# Altium footprint library Connector_PinSocket_1.27mm.PcbLib: 246 footprints (part 8 of 16)
Each footprint in its own frame and in the unit in brackets; x right, y up, seen from the top. Pads: shape width x height; smd on the part's side, far side on the other; paste and mask are expansions set on the pad; w line width, h text height; cw(c..) or ccw(c..) is an arc to the next point about the centre after c.
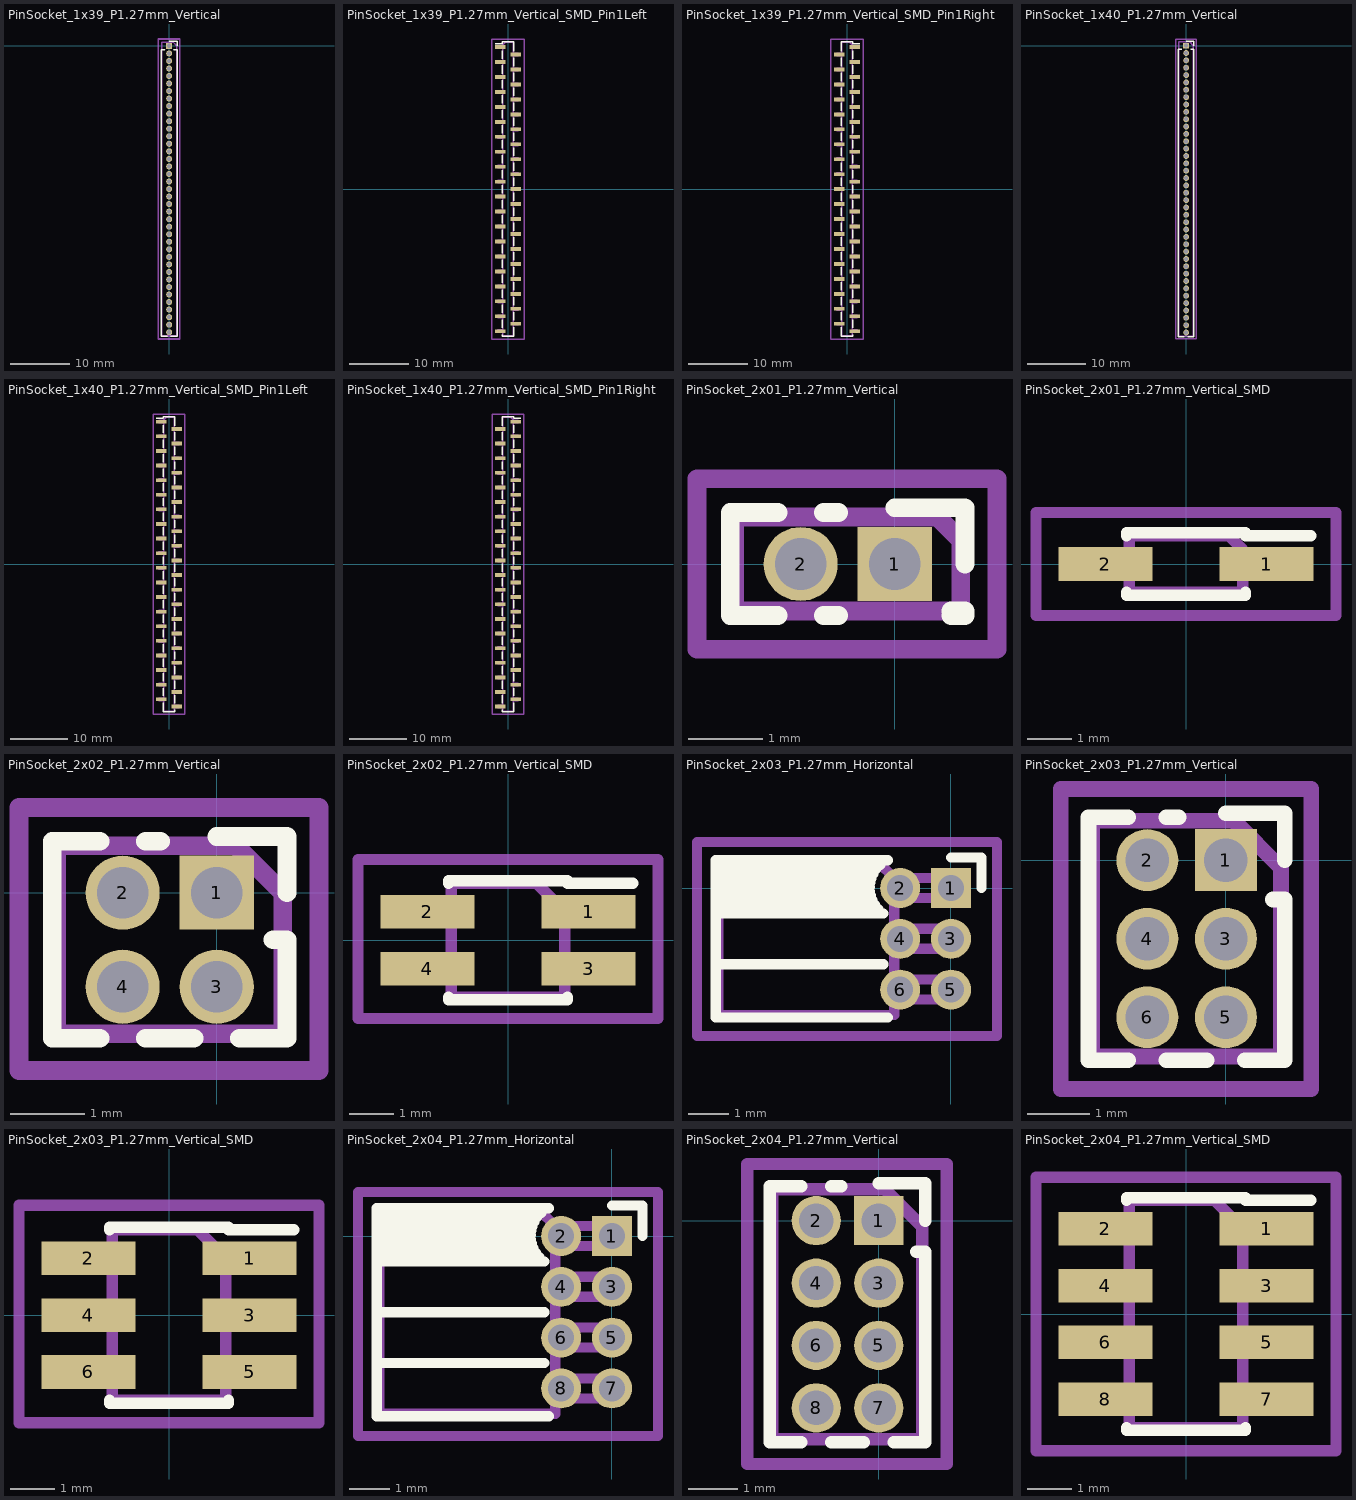
[diagram p7: the footprints below, top view; thin cyan lines are the x and y axes]

## PinSocket_1x39_P1.27mm_Vertical [mm]
pads (39):
  rect 1x1 hole 0.7: 1(0,0)
  round 1 hole 0.7: 2(0,-1.27) 3(0,-2.54) 4(0,-3.81) 5(0,-5.08) 6(0,-6.35) 7(0,-7.62) 8(0,-8.89) 9(0,-10.16) 10(0,-11.43) 11(0,-12.7) 12(0,-13.97) 13(0,-15.24) 14(0,-16.51) 15(0,-17.78) 16(0,-19.05) 17(0,-20.32) 18(0,-21.59) 19(0,-22.86) 20(0,-24.13) 21(0,-25.4) 22(0,-26.67) 23(0,-27.94) 24(0,-29.21) 25(0,-30.48) 26(0,-31.75) 27(0,-33.02) 28(0,-34.29) 29(0,-35.56) 30(0,-36.83) 31(0,-38.1) 32(0,-39.37) 33(0,-40.64) 34(0,-41.91) 35(0,-43.18) 36(0,-44.45) 37(0,-45.72) 38(0,-46.99) 39(0,-48.26)
F.SilkS:
  lines w0.254: -0.76,-0.635 -1.33,-0.635 -1.33,-48.955 -0.308,-48.955 ; 0,0.76 1.33,0.76 1.33,0 ; 0.308,-48.955 1.33,-48.955 1.33,-0.635 0.76,-0.635
Top Assembly:
  lines w0.254: -1.27,-48.895 1.27,-48.895 1.27,0 0.635,0.635 -1.27,0.635 -1.27,-48.895
  text "'.Designator'" at 0.84,-28.177 h1
Top Courtyard:
  lines w0.254: -1.8,-49.4 1.75,-49.4 1.75,1.15 -1.8,1.15 -1.8,-49.4
Top Designator:
  text ".Designator" at -7.643,-24.633 h1.52

## PinSocket_1x39_P1.27mm_Vertical_SMD_Pin1Left [mm]
pads (39):
  rect 1.8x0.65 smd: 1(-1.35,24.13) 2(1.35,22.86) 3(-1.35,21.59) 4(1.35,20.32) 5(-1.35,19.05) 6(1.35,17.78) 7(-1.35,16.51) 8(1.35,15.24) 9(-1.35,13.97) 10(1.35,12.7) 11(-1.35,11.43) 12(1.35,10.16) 13(-1.35,8.89) 14(1.35,7.62) 15(-1.35,6.35) 16(1.35,5.08) 17(-1.35,3.81) 18(1.35,2.54) 19(-1.35,1.27) 20(1.35,0) 21(-1.35,-1.27) 22(1.35,-2.54) 23(-1.35,-3.81) 24(1.35,-5.08) 25(-1.35,-6.35) 26(1.35,-7.62) 27(-1.35,-8.89) 28(1.35,-10.16) 29(-1.35,-11.43) 30(1.35,-12.7) 31(-1.35,-13.97) 32(1.35,-15.24) 33(-1.35,-16.51) 34(1.35,-17.78) 35(-1.35,-19.05) 36(1.35,-20.32) 37(-1.35,-21.59) 38(1.35,-22.86) 39(-1.35,-24.13)
F.SilkS:
  lines w0.254: -2.19,24.715 -0.96,24.715 -0.96,25 0.96,25 0.96,23.445 ; -0.96,-24.715 -0.96,-25 0.96,-25 0.96,-23.445 ; -0.96,-23.545 -0.96,-22.175 ; -0.96,-21.005 -0.96,-19.635 ; -0.96,-18.465 -0.96,-17.095 ; -0.96,-15.925 -0.96,-14.555 ; -0.96,-13.385 -0.96,-12.015 ; -0.96,-10.845 -0.96,-9.475 ; -0.96,-8.305 -0.96,-6.935 ; -0.96,-5.765 -0.96,-4.395 ; -0.96,-3.225 -0.96,-1.855 ; -0.96,-0.685 -0.96,0.685 ; -0.96,1.855 -0.96,3.225 ; -0.96,4.395 -0.96,5.765 ; -0.96,6.935 -0.96,8.305 ; -0.96,9.475 -0.96,10.845 ; -0.96,12.015 -0.96,13.385 ; -0.96,14.555 -0.96,15.925 ; -0.96,17.095 -0.96,18.465 ; -0.96,19.635 -0.96,21.005 ; -0.96,22.175 -0.96,23.545 ; 0.96,-22.275 0.96,-20.905 ; 0.96,-19.735 0.96,-18.365 ; 0.96,-17.195 0.96,-15.825 ; 0.96,-14.655 0.96,-13.285 ; 0.96,-12.115 0.96,-10.745 ; 0.96,-9.575 0.96,-8.205 ; 0.96,-7.035 0.96,-5.665 ; 0.96,-4.495 0.96,-3.125 ; 0.96,-1.955 0.96,-0.585 ; 0.96,0.585 0.96,1.955 ; 0.96,3.125 0.96,4.495 ; 0.96,5.665 0.96,7.035 ; 0.96,8.205 0.96,9.575 ; 0.96,10.745 0.96,12.115 ; 0.96,13.285 0.96,14.655 ; 0.96,15.825 0.96,17.195 ; 0.96,18.365 0.96,19.735 ; 0.96,20.905 0.96,22.275
Top Assembly:
  lines w0.254: -0.9,-24.34 -1.75,-24.34 -1.75,-23.92 -0.9,-23.92 ; -0.9,-21.8 -1.75,-21.8 -1.75,-21.38 -0.9,-21.38 ; -0.9,-19.26 -1.75,-19.26 -1.75,-18.84 -0.9,-18.84 ; -0.9,-16.72 -1.75,-16.72 -1.75,-16.3 -0.9,-16.3 ; -0.9,-14.18 -1.75,-14.18 -1.75,-13.76 -0.9,-13.76 ; -0.9,-11.64 -1.75,-11.64 -1.75,-11.22 -0.9,-11.22 ; -0.9,-9.1 -1.75,-9.1 -1.75,-8.68 -0.9,-8.68 ; -0.9,-6.56 -1.75,-6.56 -1.75,-6.14 -0.9,-6.14 ; -0.9,-4.02 -1.75,-4.02 -1.75,-3.6 -0.9,-3.6 ; -0.9,-1.48 -1.75,-1.48 -1.75,-1.06 -0.9,-1.06 ; -0.9,1.06 -1.75,1.06 -1.75,1.48 -0.9,1.48 ; -0.9,3.6 -1.75,3.6 -1.75,4.02 -0.9,4.02 ; -0.9,6.14 -1.75,6.14 -1.75,6.56 -0.9,6.56 ; -0.9,8.68 -1.75,8.68 -1.75,9.1 -0.9,9.1 ; -0.9,11.22 -1.75,11.22 -1.75,11.64 -0.9,11.64 ; -0.9,13.76 -1.75,13.76 -1.75,14.18 -0.9,14.18 ; -0.9,16.3 -1.75,16.3 -1.75,16.72 -0.9,16.72 ; -0.9,18.84 -1.75,18.84 -1.75,19.26 -0.9,19.26 ; -0.9,21.38 -1.75,21.38 -1.75,21.8 -0.9,21.8 ; -0.9,23.92 -1.75,23.92 -1.75,24.34 -0.9,24.34 ; 0.9,-23.07 1.75,-23.07 1.75,-22.65 0.9,-22.65 ; 0.9,-20.53 1.75,-20.53 1.75,-20.11 0.9,-20.11 ; 0.9,-17.99 1.75,-17.99 1.75,-17.57 0.9,-17.57 ; 0.9,-15.45 1.75,-15.45 1.75,-15.03 0.9,-15.03 ; 0.9,-12.91 1.75,-12.91 1.75,-12.49 0.9,-12.49 ; 0.9,-10.37 1.75,-10.37 1.75,-9.95 0.9,-9.95 ; 0.9,-7.83 1.75,-7.83 1.75,-7.41 0.9,-7.41 ; 0.9,-5.29 1.75,-5.29 1.75,-4.87 0.9,-4.87 ; 0.9,-2.75 1.75,-2.75 1.75,-2.33 0.9,-2.33 ; 0.9,-0.21 1.75,-0.21 1.75,0.21 0.9,0.21 ; 0.9,2.33 1.75,2.33 1.75,2.75 0.9,2.75 ; 0.9,4.87 1.75,4.87 1.75,5.29 0.9,5.29 ; 0.9,7.41 1.75,7.41 1.75,7.83 0.9,7.83 ; 0.9,9.95 1.75,9.95 1.75,10.37 0.9,10.37 ; 0.9,12.49 1.75,12.49 1.75,12.91 0.9,12.91 ; 0.9,15.03 1.75,15.03 1.75,15.45 0.9,15.45 ; 0.9,17.57 1.75,17.57 1.75,17.99 0.9,17.99 ; 0.9,20.11 1.75,20.11 1.75,20.53 0.9,20.53 ; 0.9,22.65 1.75,22.65 1.75,23.07 0.9,23.07 ; -0.9,-24.94 0.9,-24.94 0.9,24.94 -0.45,24.94 -0.9,24.49 -0.9,-24.94
  text "'.Designator'" at 0.84,-4.047 h1
Top Courtyard:
  lines w0.254: -2.75,-25.45 2.75,-25.45 2.75,25.5 -2.75,25.5 -2.75,-25.45
Top Designator:
  text ".Designator" at -7.618,-0.483 h1.52

## PinSocket_1x39_P1.27mm_Vertical_SMD_Pin1Right [mm]
pads (39):
  rect 1.8x0.65 smd: 1(1.35,24.13) 2(-1.35,22.86) 3(1.35,21.59) 4(-1.35,20.32) 5(1.35,19.05) 6(-1.35,17.78) 7(1.35,16.51) 8(-1.35,15.24) 9(1.35,13.97) 10(-1.35,12.7) 11(1.35,11.43) 12(-1.35,10.16) 13(1.35,8.89) 14(-1.35,7.62) 15(1.35,6.35) 16(-1.35,5.08) 17(1.35,3.81) 18(-1.35,2.54) 19(1.35,1.27) 20(-1.35,0) 21(1.35,-1.27) 22(-1.35,-2.54) 23(1.35,-3.81) 24(-1.35,-5.08) 25(1.35,-6.35) 26(-1.35,-7.62) 27(1.35,-8.89) 28(-1.35,-10.16) 29(1.35,-11.43) 30(-1.35,-12.7) 31(1.35,-13.97) 32(-1.35,-15.24) 33(1.35,-16.51) 34(-1.35,-17.78) 35(1.35,-19.05) 36(-1.35,-20.32) 37(1.35,-21.59) 38(-1.35,-22.86) 39(1.35,-24.13)
F.SilkS:
  lines w0.254: -0.96,-23.445 -0.96,-25 0.96,-25 0.96,-24.715 ; -0.96,-22.275 -0.96,-20.905 ; -0.96,-19.735 -0.96,-18.365 ; -0.96,-17.195 -0.96,-15.825 ; -0.96,-14.655 -0.96,-13.285 ; -0.96,-12.115 -0.96,-10.745 ; -0.96,-9.575 -0.96,-8.205 ; -0.96,-7.035 -0.96,-5.665 ; -0.96,-4.495 -0.96,-3.125 ; -0.96,-1.955 -0.96,-0.585 ; -0.96,0.585 -0.96,1.955 ; -0.96,3.125 -0.96,4.495 ; -0.96,5.665 -0.96,7.035 ; -0.96,8.205 -0.96,9.575 ; -0.96,10.745 -0.96,12.115 ; -0.96,13.285 -0.96,14.655 ; -0.96,15.825 -0.96,17.195 ; -0.96,18.365 -0.96,19.735 ; -0.96,20.905 -0.96,22.275 ; -0.96,23.445 -0.96,25 0.96,25 0.96,24.715 2.19,24.715 ; 0.96,-23.545 0.96,-22.175 ; 0.96,-21.005 0.96,-19.635 ; 0.96,-18.465 0.96,-17.095 ; 0.96,-15.925 0.96,-14.555 ; 0.96,-13.385 0.96,-12.015 ; 0.96,-10.845 0.96,-9.475 ; 0.96,-8.305 0.96,-6.935 ; 0.96,-5.765 0.96,-4.395 ; 0.96,-3.225 0.96,-1.855 ; 0.96,-0.685 0.96,0.685 ; 0.96,1.855 0.96,3.225 ; 0.96,4.395 0.96,5.765 ; 0.96,6.935 0.96,8.305 ; 0.96,9.475 0.96,10.845 ; 0.96,12.015 0.96,13.385 ; 0.96,14.555 0.96,15.925 ; 0.96,17.095 0.96,18.465 ; 0.96,19.635 0.96,21.005 ; 0.96,22.175 0.96,23.545
Top Assembly:
  lines w0.254: -0.9,-23.07 -1.75,-23.07 -1.75,-22.65 -0.9,-22.65 ; -0.9,-20.53 -1.75,-20.53 -1.75,-20.11 -0.9,-20.11 ; -0.9,-17.99 -1.75,-17.99 -1.75,-17.57 -0.9,-17.57 ; -0.9,-15.45 -1.75,-15.45 -1.75,-15.03 -0.9,-15.03 ; -0.9,-12.91 -1.75,-12.91 -1.75,-12.49 -0.9,-12.49 ; -0.9,-10.37 -1.75,-10.37 -1.75,-9.95 -0.9,-9.95 ; -0.9,-7.83 -1.75,-7.83 -1.75,-7.41 -0.9,-7.41 ; -0.9,-5.29 -1.75,-5.29 -1.75,-4.87 -0.9,-4.87 ; -0.9,-2.75 -1.75,-2.75 -1.75,-2.33 -0.9,-2.33 ; -0.9,-0.21 -1.75,-0.21 -1.75,0.21 -0.9,0.21 ; -0.9,2.33 -1.75,2.33 -1.75,2.75 -0.9,2.75 ; -0.9,4.87 -1.75,4.87 -1.75,5.29 -0.9,5.29 ; -0.9,7.41 -1.75,7.41 -1.75,7.83 -0.9,7.83 ; -0.9,9.95 -1.75,9.95 -1.75,10.37 -0.9,10.37 ; -0.9,12.49 -1.75,12.49 -1.75,12.91 -0.9,12.91 ; -0.9,15.03 -1.75,15.03 -1.75,15.45 -0.9,15.45 ; -0.9,17.57 -1.75,17.57 -1.75,17.99 -0.9,17.99 ; -0.9,20.11 -1.75,20.11 -1.75,20.53 -0.9,20.53 ; -0.9,22.65 -1.75,22.65 -1.75,23.07 -0.9,23.07 ; 0.9,-24.34 1.75,-24.34 1.75,-23.92 0.9,-23.92 ; 0.9,-21.8 1.75,-21.8 1.75,-21.38 0.9,-21.38 ; 0.9,-19.26 1.75,-19.26 1.75,-18.84 0.9,-18.84 ; 0.9,-16.72 1.75,-16.72 1.75,-16.3 0.9,-16.3 ; 0.9,-14.18 1.75,-14.18 1.75,-13.76 0.9,-13.76 ; 0.9,-11.64 1.75,-11.64 1.75,-11.22 0.9,-11.22 ; 0.9,-9.1 1.75,-9.1 1.75,-8.68 0.9,-8.68 ; 0.9,-6.56 1.75,-6.56 1.75,-6.14 0.9,-6.14 ; 0.9,-4.02 1.75,-4.02 1.75,-3.6 0.9,-3.6 ; 0.9,-1.48 1.75,-1.48 1.75,-1.06 0.9,-1.06 ; 0.9,1.06 1.75,1.06 1.75,1.48 0.9,1.48 ; 0.9,3.6 1.75,3.6 1.75,4.02 0.9,4.02 ; 0.9,6.14 1.75,6.14 1.75,6.56 0.9,6.56 ; 0.9,8.68 1.75,8.68 1.75,9.1 0.9,9.1 ; 0.9,11.22 1.75,11.22 1.75,11.64 0.9,11.64 ; 0.9,13.76 1.75,13.76 1.75,14.18 0.9,14.18 ; 0.9,16.3 1.75,16.3 1.75,16.72 0.9,16.72 ; 0.9,18.84 1.75,18.84 1.75,19.26 0.9,19.26 ; 0.9,21.38 1.75,21.38 1.75,21.8 0.9,21.8 ; 0.9,23.92 1.75,23.92 1.75,24.34 0.9,24.34 ; -0.9,-24.94 0.9,-24.94 0.9,24.49 0.45,24.94 -0.9,24.94 -0.9,-24.94
  text "'.Designator'" at 0.84,-4.047 h1
Top Courtyard:
  lines w0.254: -2.75,-25.45 2.75,-25.45 2.75,25.5 -2.75,25.5 -2.75,-25.45
Top Designator:
  text ".Designator" at -7.618,-0.483 h1.52

## PinSocket_1x40_P1.27mm_Vertical [mm]
pads (40):
  rect 1x1 hole 0.7: 1(0,0)
  round 1 hole 0.7: 2(0,-1.27) 3(0,-2.54) 4(0,-3.81) 5(0,-5.08) 6(0,-6.35) 7(0,-7.62) 8(0,-8.89) 9(0,-10.16) 10(0,-11.43) 11(0,-12.7) 12(0,-13.97) 13(0,-15.24) 14(0,-16.51) 15(0,-17.78) 16(0,-19.05) 17(0,-20.32) 18(0,-21.59) 19(0,-22.86) 20(0,-24.13) 21(0,-25.4) 22(0,-26.67) 23(0,-27.94) 24(0,-29.21) 25(0,-30.48) 26(0,-31.75) 27(0,-33.02) 28(0,-34.29) 29(0,-35.56) 30(0,-36.83) 31(0,-38.1) 32(0,-39.37) 33(0,-40.64) 34(0,-41.91) 35(0,-43.18) 36(0,-44.45) 37(0,-45.72) 38(0,-46.99) 39(0,-48.26) 40(0,-49.53)
F.SilkS:
  lines w0.254: -0.76,-0.635 -1.33,-0.635 -1.33,-50.225 -0.308,-50.225 ; 0,0.76 1.33,0.76 1.33,0 ; 0.308,-50.225 1.33,-50.225 1.33,-0.635 0.76,-0.635
Top Assembly:
  lines w0.254: -1.27,-50.165 1.27,-50.165 1.27,0 0.635,0.635 -1.27,0.635 -1.27,-50.165
  text "'.Designator'" at 0.84,-28.812 h1
Top Courtyard:
  lines w0.254: -1.8,-50.65 1.75,-50.65 1.75,1.15 -1.8,1.15 -1.8,-50.65
Top Designator:
  text ".Designator" at -7.643,-25.258 h1.52

## PinSocket_1x40_P1.27mm_Vertical_SMD_Pin1Left [mm]
pads (40):
  rect 1.8x0.65 smd: 1(-1.35,24.765) 2(1.35,23.495) 3(-1.35,22.225) 4(1.35,20.955) 5(-1.35,19.685) 6(1.35,18.415) 7(-1.35,17.145) 8(1.35,15.875) 9(-1.35,14.605) 10(1.35,13.335) 11(-1.35,12.065) 12(1.35,10.795) 13(-1.35,9.525) 14(1.35,8.255) 15(-1.35,6.985) 16(1.35,5.715) 17(-1.35,4.445) 18(1.35,3.175) 19(-1.35,1.905) 20(1.35,0.635) 21(-1.35,-0.635) 22(1.35,-1.905) 23(-1.35,-3.175) 24(1.35,-4.445) 25(-1.35,-5.715) 26(1.35,-6.985) 27(-1.35,-8.255) 28(1.35,-9.525) 29(-1.35,-10.795) 30(1.35,-12.065) 31(-1.35,-13.335) 32(1.35,-14.605) 33(-1.35,-15.875) 34(1.35,-17.145) 35(-1.35,-18.415) 36(1.35,-19.685) 37(-1.35,-20.955) 38(1.35,-22.225) 39(-1.35,-23.495) 40(1.35,-24.765)
F.SilkS:
  lines w0.254: -2.19,25.35 -0.96,25.35 -0.96,25.635 0.96,25.635 0.96,24.08 ; -0.96,-24.08 -0.96,-25.635 0.96,-25.635 0.96,-25.35 ; -0.96,-22.91 -0.96,-21.54 ; -0.96,-20.37 -0.96,-19 ; -0.96,-17.83 -0.96,-16.46 ; -0.96,-15.29 -0.96,-13.92 ; -0.96,-12.75 -0.96,-11.38 ; -0.96,-10.21 -0.96,-8.84 ; -0.96,-7.67 -0.96,-6.3 ; -0.96,-5.13 -0.96,-3.76 ; -0.96,-2.59 -0.96,-1.22 ; -0.96,-0.05 -0.96,1.32 ; -0.96,2.49 -0.96,3.86 ; -0.96,5.03 -0.96,6.4 ; -0.96,7.57 -0.96,8.94 ; -0.96,10.11 -0.96,11.48 ; -0.96,12.65 -0.96,14.02 ; -0.96,15.19 -0.96,16.56 ; -0.96,17.73 -0.96,19.1 ; -0.96,20.27 -0.96,21.64 ; -0.96,22.81 -0.96,24.18 ; 0.96,-24.18 0.96,-22.81 ; 0.96,-21.64 0.96,-20.27 ; 0.96,-19.1 0.96,-17.73 ; 0.96,-16.56 0.96,-15.19 ; 0.96,-14.02 0.96,-12.65 ; 0.96,-11.48 0.96,-10.11 ; 0.96,-8.94 0.96,-7.57 ; 0.96,-6.4 0.96,-5.03 ; 0.96,-3.86 0.96,-2.49 ; 0.96,-1.32 0.96,0.05 ; 0.96,1.22 0.96,2.59 ; 0.96,3.76 0.96,5.13 ; 0.96,6.3 0.96,7.67 ; 0.96,8.84 0.96,10.21 ; 0.96,11.38 0.96,12.75 ; 0.96,13.92 0.96,15.29 ; 0.96,16.46 0.96,17.83 ; 0.96,19 0.96,20.37 ; 0.96,21.54 0.96,22.91
Top Assembly:
  lines w0.254: -0.9,-23.705 -1.75,-23.705 -1.75,-23.285 -0.9,-23.285 ; -0.9,-21.165 -1.75,-21.165 -1.75,-20.745 -0.9,-20.745 ; -0.9,-18.625 -1.75,-18.625 -1.75,-18.205 -0.9,-18.205 ; -0.9,-16.085 -1.75,-16.085 -1.75,-15.665 -0.9,-15.665 ; -0.9,-13.545 -1.75,-13.545 -1.75,-13.125 -0.9,-13.125 ; -0.9,-11.005 -1.75,-11.005 -1.75,-10.585 -0.9,-10.585 ; -0.9,-8.465 -1.75,-8.465 -1.75,-8.045 -0.9,-8.045 ; -0.9,-5.925 -1.75,-5.925 -1.75,-5.505 -0.9,-5.505 ; -0.9,-3.385 -1.75,-3.385 -1.75,-2.965 -0.9,-2.965 ; -0.9,-0.845 -1.75,-0.845 -1.75,-0.425 -0.9,-0.425 ; -0.9,1.695 -1.75,1.695 -1.75,2.115 -0.9,2.115 ; -0.9,4.235 -1.75,4.235 -1.75,4.655 -0.9,4.655 ; -0.9,6.775 -1.75,6.775 -1.75,7.195 -0.9,7.195 ; -0.9,9.315 -1.75,9.315 -1.75,9.735 -0.9,9.735 ; -0.9,11.855 -1.75,11.855 -1.75,12.275 -0.9,12.275 ; -0.9,14.395 -1.75,14.395 -1.75,14.815 -0.9,14.815 ; -0.9,16.935 -1.75,16.935 -1.75,17.355 -0.9,17.355 ; -0.9,19.475 -1.75,19.475 -1.75,19.895 -0.9,19.895 ; -0.9,22.015 -1.75,22.015 -1.75,22.435 -0.9,22.435 ; -0.9,24.555 -1.75,24.555 -1.75,24.975 -0.9,24.975 ; 0.9,-24.975 1.75,-24.975 1.75,-24.555 0.9,-24.555 ; 0.9,-22.435 1.75,-22.435 1.75,-22.015 0.9,-22.015 ; 0.9,-19.895 1.75,-19.895 1.75,-19.475 0.9,-19.475 ; 0.9,-17.355 1.75,-17.355 1.75,-16.935 0.9,-16.935 ; 0.9,-14.815 1.75,-14.815 1.75,-14.395 0.9,-14.395 ; 0.9,-12.275 1.75,-12.275 1.75,-11.855 0.9,-11.855 ; 0.9,-9.735 1.75,-9.735 1.75,-9.315 0.9,-9.315 ; 0.9,-7.195 1.75,-7.195 1.75,-6.775 0.9,-6.775 ; 0.9,-4.655 1.75,-4.655 1.75,-4.235 0.9,-4.235 ; 0.9,-2.115 1.75,-2.115 1.75,-1.695 0.9,-1.695 ; 0.9,0.425 1.75,0.425 1.75,0.845 0.9,0.845 ; 0.9,2.965 1.75,2.965 1.75,3.385 0.9,3.385 ; 0.9,5.505 1.75,5.505 1.75,5.925 0.9,5.925 ; 0.9,8.045 1.75,8.045 1.75,8.465 0.9,8.465 ; 0.9,10.585 1.75,10.585 1.75,11.005 0.9,11.005 ; 0.9,13.125 1.75,13.125 1.75,13.545 0.9,13.545 ; 0.9,15.665 1.75,15.665 1.75,16.085 0.9,16.085 ; 0.9,18.205 1.75,18.205 1.75,18.625 0.9,18.625 ; 0.9,20.745 1.75,20.745 1.75,21.165 0.9,21.165 ; 0.9,23.285 1.75,23.285 1.75,23.705 0.9,23.705 ; -0.9,-25.575 0.9,-25.575 0.9,25.575 -0.45,25.575 -0.9,25.125 -0.9,-25.575
  text "'.Designator'" at 0.84,-4.047 h1
Top Courtyard:
  lines w0.254: -2.75,-26.05 2.75,-26.05 2.75,26.1 -2.75,26.1 -2.75,-26.05
Top Designator:
  text ".Designator" at -7.618,-0.483 h1.52

## PinSocket_1x40_P1.27mm_Vertical_SMD_Pin1Right [mm]
pads (40):
  rect 1.8x0.65 smd: 1(1.35,24.765) 2(-1.35,23.495) 3(1.35,22.225) 4(-1.35,20.955) 5(1.35,19.685) 6(-1.35,18.415) 7(1.35,17.145) 8(-1.35,15.875) 9(1.35,14.605) 10(-1.35,13.335) 11(1.35,12.065) 12(-1.35,10.795) 13(1.35,9.525) 14(-1.35,8.255) 15(1.35,6.985) 16(-1.35,5.715) 17(1.35,4.445) 18(-1.35,3.175) 19(1.35,1.905) 20(-1.35,0.635) 21(1.35,-0.635) 22(-1.35,-1.905) 23(1.35,-3.175) 24(-1.35,-4.445) 25(1.35,-5.715) 26(-1.35,-6.985) 27(1.35,-8.255) 28(-1.35,-9.525) 29(1.35,-10.795) 30(-1.35,-12.065) 31(1.35,-13.335) 32(-1.35,-14.605) 33(1.35,-15.875) 34(-1.35,-17.145) 35(1.35,-18.415) 36(-1.35,-19.685) 37(1.35,-20.955) 38(-1.35,-22.225) 39(1.35,-23.495) 40(-1.35,-24.765)
F.SilkS:
  lines w0.254: -0.96,-25.35 -0.96,-25.635 0.96,-25.635 0.96,-24.08 ; -0.96,-24.18 -0.96,-22.81 ; -0.96,-21.64 -0.96,-20.27 ; -0.96,-19.1 -0.96,-17.73 ; -0.96,-16.56 -0.96,-15.19 ; -0.96,-14.02 -0.96,-12.65 ; -0.96,-11.48 -0.96,-10.11 ; -0.96,-8.94 -0.96,-7.57 ; -0.96,-6.4 -0.96,-5.03 ; -0.96,-3.86 -0.96,-2.49 ; -0.96,-1.32 -0.96,0.05 ; -0.96,1.22 -0.96,2.59 ; -0.96,3.76 -0.96,5.13 ; -0.96,6.3 -0.96,7.67 ; -0.96,8.84 -0.96,10.21 ; -0.96,11.38 -0.96,12.75 ; -0.96,13.92 -0.96,15.29 ; -0.96,16.46 -0.96,17.83 ; -0.96,19 -0.96,20.37 ; -0.96,21.54 -0.96,22.91 ; -0.96,24.08 -0.96,25.635 0.96,25.635 0.96,25.35 2.19,25.35 ; 0.96,-22.91 0.96,-21.54 ; 0.96,-20.37 0.96,-19 ; 0.96,-17.83 0.96,-16.46 ; 0.96,-15.29 0.96,-13.92 ; 0.96,-12.75 0.96,-11.38 ; 0.96,-10.21 0.96,-8.84 ; 0.96,-7.67 0.96,-6.3 ; 0.96,-5.13 0.96,-3.76 ; 0.96,-2.59 0.96,-1.22 ; 0.96,-0.05 0.96,1.32 ; 0.96,2.49 0.96,3.86 ; 0.96,5.03 0.96,6.4 ; 0.96,7.57 0.96,8.94 ; 0.96,10.11 0.96,11.48 ; 0.96,12.65 0.96,14.02 ; 0.96,15.19 0.96,16.56 ; 0.96,17.73 0.96,19.1 ; 0.96,20.27 0.96,21.64 ; 0.96,22.81 0.96,24.18
Top Assembly:
  lines w0.254: -0.9,-24.975 -1.75,-24.975 -1.75,-24.555 -0.9,-24.555 ; -0.9,-22.435 -1.75,-22.435 -1.75,-22.015 -0.9,-22.015 ; -0.9,-19.895 -1.75,-19.895 -1.75,-19.475 -0.9,-19.475 ; -0.9,-17.355 -1.75,-17.355 -1.75,-16.935 -0.9,-16.935 ; -0.9,-14.815 -1.75,-14.815 -1.75,-14.395 -0.9,-14.395 ; -0.9,-12.275 -1.75,-12.275 -1.75,-11.855 -0.9,-11.855 ; -0.9,-9.735 -1.75,-9.735 -1.75,-9.315 -0.9,-9.315 ; -0.9,-7.195 -1.75,-7.195 -1.75,-6.775 -0.9,-6.775 ; -0.9,-4.655 -1.75,-4.655 -1.75,-4.235 -0.9,-4.235 ; -0.9,-2.115 -1.75,-2.115 -1.75,-1.695 -0.9,-1.695 ; -0.9,0.425 -1.75,0.425 -1.75,0.845 -0.9,0.845 ; -0.9,2.965 -1.75,2.965 -1.75,3.385 -0.9,3.385 ; -0.9,5.505 -1.75,5.505 -1.75,5.925 -0.9,5.925 ; -0.9,8.045 -1.75,8.045 -1.75,8.465 -0.9,8.465 ; -0.9,10.585 -1.75,10.585 -1.75,11.005 -0.9,11.005 ; -0.9,13.125 -1.75,13.125 -1.75,13.545 -0.9,13.545 ; -0.9,15.665 -1.75,15.665 -1.75,16.085 -0.9,16.085 ; -0.9,18.205 -1.75,18.205 -1.75,18.625 -0.9,18.625 ; -0.9,20.745 -1.75,20.745 -1.75,21.165 -0.9,21.165 ; -0.9,23.285 -1.75,23.285 -1.75,23.705 -0.9,23.705 ; 0.9,-23.705 1.75,-23.705 1.75,-23.285 0.9,-23.285 ; 0.9,-21.165 1.75,-21.165 1.75,-20.745 0.9,-20.745 ; 0.9,-18.625 1.75,-18.625 1.75,-18.205 0.9,-18.205 ; 0.9,-16.085 1.75,-16.085 1.75,-15.665 0.9,-15.665 ; 0.9,-13.545 1.75,-13.545 1.75,-13.125 0.9,-13.125 ; 0.9,-11.005 1.75,-11.005 1.75,-10.585 0.9,-10.585 ; 0.9,-8.465 1.75,-8.465 1.75,-8.045 0.9,-8.045 ; 0.9,-5.925 1.75,-5.925 1.75,-5.505 0.9,-5.505 ; 0.9,-3.385 1.75,-3.385 1.75,-2.965 0.9,-2.965 ; 0.9,-0.845 1.75,-0.845 1.75,-0.425 0.9,-0.425 ; 0.9,1.695 1.75,1.695 1.75,2.115 0.9,2.115 ; 0.9,4.235 1.75,4.235 1.75,4.655 0.9,4.655 ; 0.9,6.775 1.75,6.775 1.75,7.195 0.9,7.195 ; 0.9,9.315 1.75,9.315 1.75,9.735 0.9,9.735 ; 0.9,11.855 1.75,11.855 1.75,12.275 0.9,12.275 ; 0.9,14.395 1.75,14.395 1.75,14.815 0.9,14.815 ; 0.9,16.935 1.75,16.935 1.75,17.355 0.9,17.355 ; 0.9,19.475 1.75,19.475 1.75,19.895 0.9,19.895 ; 0.9,22.015 1.75,22.015 1.75,22.435 0.9,22.435 ; 0.9,24.555 1.75,24.555 1.75,24.975 0.9,24.975 ; -0.9,-25.575 0.9,-25.575 0.9,25.125 0.45,25.575 -0.9,25.575 -0.9,-25.575
  text "'.Designator'" at 0.84,-4.047 h1
Top Courtyard:
  lines w0.254: -2.75,-26.05 2.75,-26.05 2.75,26.1 -2.75,26.1 -2.75,-26.05
Top Designator:
  text ".Designator" at -7.618,-0.483 h1.52

## PinSocket_2x01_P1.27mm_Vertical [mm]
pads (2):
  rect 1x1 hole 0.7: 1(0,0)
  round 1 hole 0.7: 2(-1.27,0)
F.SilkS:
  lines w0.254: -1.578,-0.695 -2.22,-0.695 -2.22,0.695 -1.578,0.695 ; -0.962,-0.695 -0.76,-0.695 ; -0.962,0.695 -0.76,0.695 ; 0,0.76 0.95,0.76 0.95,0 ; 0.76,-0.695 0.95,-0.695 0.95,-0.635 0.76,-0.635
Top Assembly:
  lines w0.254: -2.16,-0.635 0.89,-0.635 0.89,0.318 0.573,0.635 -2.16,0.635 -2.16,-0.635
  text "'.Designator'" at -3.707,-0.635 h0.76
Top Courtyard:
  lines w0.254: -2.67,-1.15 1.38,-1.15 1.38,1.15 -2.67,1.15 -2.67,-1.15
Top Designator:
  text ".Designator" at -8.363,-0.508 h1.52

## PinSocket_2x01_P1.27mm_Vertical_SMD [mm]
pads (2):
  rect 2.1x0.75 smd: 1(1.8,0) 2(-1.8,0)
F.SilkS:
  lines w0.254: -1.33,-0.635 -1.33,-0.695 1.33,-0.695 1.33,-0.635 ; -1.33,0.635 -1.33,0.695 1.33,0.695 1.33,0.635 2.79,0.635
Top Assembly:
  lines w0.254: -1.27,-0.2 -2.555,-0.2 -2.555,0.2 -1.27,0.2 ; 1.27,-0.2 2.555,-0.2 2.555,0.2 1.27,0.2 ; -1.27,-0.635 1.27,-0.635 1.27,0.318 0.953,0.635 -1.27,0.635 -1.27,-0.635
  text "'.Designator'" at -3.072,-0.635 h0.76
Top Courtyard:
  lines w0.254: -3.35,-1.15 3.35,-1.15 3.35,1.15 -3.35,1.15 -3.35,-1.15
Top Designator:
  text ".Designator" at -7.618,-0.508 h1.52

## PinSocket_2x02_P1.27mm_Vertical [mm]
pads (4):
  rect 1x1 hole 0.7: 1(0,0)
  round 1 hole 0.7: 2(-1.27,0) 3(0,-1.27) 4(-1.27,-1.27)
F.SilkS:
  lines w0.254: -1.578,-1.965 -2.22,-1.965 -2.22,0.695 -1.578,0.695 ; -0.962,-1.965 -0.308,-1.965 ; -0.962,0.695 -0.76,0.695 ; 0,0.76 0.95,0.76 0.95,0 ; 0.308,-1.965 0.95,-1.965 0.95,-0.635 0.76,-0.635
Top Assembly:
  lines w0.254: -2.16,-1.905 0.89,-1.905 0.89,0 0.255,0.635 -2.16,0.635 -2.16,-1.905
  text "'.Designator'" at 0.205,-4.682 h1
Top Courtyard:
  lines w0.254: -2.67,-2.4 1.38,-2.4 1.38,1.15 -2.67,1.15 -2.67,-2.4
Top Designator:
  text ".Designator" at -8.263,-1.293 h1.52

## PinSocket_2x02_P1.27mm_Vertical_SMD [mm]
pads (4):
  rect 2.1x0.75 smd: 1(1.8,0.635) 2(-1.8,0.635) 3(1.8,-0.635) 4(-1.8,-0.635)
F.SilkS:
  lines w0.254: -1.33,-1.27 -1.33,-1.33 1.33,-1.33 1.33,-1.27 ; -1.33,1.27 -1.33,1.33 1.33,1.33 1.33,1.27 2.79,1.27
Top Assembly:
  lines w0.254: -1.27,-0.835 -2.555,-0.835 -2.555,-0.435 -1.27,-0.435 ; -1.27,0.435 -2.555,0.435 -2.555,0.835 -1.27,0.835 ; 1.27,-0.835 2.555,-0.835 2.555,-0.435 1.27,-0.435 ; 1.27,0.435 2.555,0.435 2.555,0.835 1.27,0.835 ; -1.27,-1.27 1.27,-1.27 1.27,0.635 0.635,1.27 -1.27,1.27 -1.27,-1.27
  text "'.Designator'" at 0.84,-4.047 h1
Top Courtyard:
  lines w0.254: -3.35,-1.75 3.35,-1.75 3.35,1.8 -3.35,1.8 -3.35,-1.75
Top Designator:
  text ".Designator" at -7.618,-0.658 h1.52

## PinSocket_2x03_P1.27mm_Horizontal [mm]
pads (6):
  rect 1x1 hole 0.65: 1(0,0)
  round 1 hole 0.65: 2(-1.27,0) 3(0,-1.27) 4(-1.27,-1.27) 5(0,-2.54) 6(-1.27,-2.54)
F.SilkS:
  lines w0.254: -5.88,-1.905 -1.688,-1.905 ; -5.88,-0.635 -1.688,-0.635 ; -5.88,-0.525 -1.82,-0.525 ; -5.88,-0.415 -1.907,-0.415 ; -5.88,-0.305 -1.966,-0.305 ; -5.88,-0.195 -2.005,-0.195 ; -5.88,-0.085 -2.025,-0.085 ; -5.88,0.025 -2.03,0.025 ; -5.88,0.135 -2.018,0.135 ; -5.88,0.245 -1.989,0.245 ; -5.88,0.355 -1.942,0.355 ; -5.88,0.465 -1.871,0.465 ; -5.88,0.575 -1.767,0.575 ; -1.578,-3.235 -5.88,-3.235 -5.88,0.695 -1.578,0.695 ; 0,0.76 0.76,0.76 0.76,0
Top Assembly:
  lines w0.254: -1.42,-2.79 0,-2.79 0,-2.29 -1.42,-2.29 ; -1.42,-1.52 0,-1.52 0,-1.02 -1.42,-1.02 ; -1.42,-0.25 0,-0.25 0,0.25 -1.42,0.25 ; -1.42,0.25 -1.42,-3.175 -5.82,-3.175 -5.82,0.635 -1.805,0.635 -1.42,0.25
  text "'.Designator'" at -7.667,-2.11 h1
Top Courtyard:
  lines w0.254: -6.35,-3.7 1.15,-3.7 1.15,1.15 -6.35,1.15 -6.35,-3.7
Top Designator:
  text ".Designator" at -10.887,-1.783 h1.52

## PinSocket_2x03_P1.27mm_Vertical [mm]
pads (6):
  rect 1x1 hole 0.7: 1(0,0)
  round 1 hole 0.7: 2(-1.27,0) 3(0,-1.27) 4(-1.27,-1.27) 5(0,-2.54) 6(-1.27,-2.54)
F.SilkS:
  lines w0.254: -1.578,-3.235 -2.22,-3.235 -2.22,0.695 -1.578,0.695 ; -0.962,-3.235 -0.308,-3.235 ; -0.962,0.695 -0.76,0.695 ; 0,0.76 0.95,0.76 0.95,0 ; 0.308,-3.235 0.95,-3.235 0.95,-0.635 0.76,-0.635
Top Assembly:
  lines w0.254: -2.16,-3.175 0.89,-3.175 0.89,-0.128 0.128,0.635 -2.16,0.635 -2.16,-3.175
  text "'.Designator'" at 0.205,-5.317 h1
Top Courtyard:
  lines w0.254: -2.67,-3.7 1.38,-3.7 1.38,1.15 -2.67,1.15 -2.67,-3.7
Top Designator:
  text ".Designator" at -8.263,-1.928 h1.52

## PinSocket_2x03_P1.27mm_Vertical_SMD [mm]
pads (6):
  rect 2.1x0.75 smd: 1(1.8,1.27) 2(-1.8,1.27) 3(1.8,0) 4(-1.8,0) 5(1.8,-1.27) 6(-1.8,-1.27)
F.SilkS:
  lines w0.254: -1.33,-1.905 -1.33,-1.965 1.33,-1.965 1.33,-1.905 ; -1.33,1.905 -1.33,1.965 1.33,1.965 1.33,1.905 2.79,1.905
Top Assembly:
  lines w0.254: -1.27,-1.47 -2.555,-1.47 -2.555,-1.07 -1.27,-1.07 ; -1.27,-0.2 -2.555,-0.2 -2.555,0.2 -1.27,0.2 ; -1.27,1.07 -2.555,1.07 -2.555,1.47 -1.27,1.47 ; 1.27,-1.47 2.555,-1.47 2.555,-1.07 1.27,-1.07 ; 1.27,-0.2 2.555,-0.2 2.555,0.2 1.27,0.2 ; 1.27,1.07 2.555,1.07 2.555,1.47 1.27,1.47 ; -1.27,-1.905 1.27,-1.905 1.27,1.27 0.635,1.905 -1.27,1.905 -1.27,-1.905
  text "'.Designator'" at 0.84,-4.047 h1
Top Courtyard:
  lines w0.254: -3.35,-2.4 3.35,-2.4 3.35,2.45 -3.35,2.45 -3.35,-2.4
Top Designator:
  text ".Designator" at -7.618,-0.658 h1.52

## PinSocket_2x04_P1.27mm_Horizontal [mm]
pads (8):
  rect 1x1 hole 0.65: 1(0,0)
  round 1 hole 0.65: 2(-1.27,0) 3(0,-1.27) 4(-1.27,-1.27) 5(0,-2.54) 6(-1.27,-2.54) 7(0,-3.81) 8(-1.27,-3.81)
F.SilkS:
  lines w0.254: -5.88,-3.175 -1.688,-3.175 ; -5.88,-1.905 -1.688,-1.905 ; -5.88,-0.635 -1.688,-0.635 ; -5.88,-0.525 -1.82,-0.525 ; -5.88,-0.415 -1.907,-0.415 ; -5.88,-0.305 -1.966,-0.305 ; -5.88,-0.195 -2.005,-0.195 ; -5.88,-0.085 -2.025,-0.085 ; -5.88,0.025 -2.03,0.025 ; -5.88,0.135 -2.018,0.135 ; -5.88,0.245 -1.989,0.245 ; -5.88,0.355 -1.942,0.355 ; -5.88,0.465 -1.871,0.465 ; -5.88,0.575 -1.767,0.575 ; -1.578,-4.505 -5.88,-4.505 -5.88,0.695 -1.578,0.695 ; 0,0.76 0.76,0.76 0.76,0
Top Assembly:
  lines w0.254: -1.42,-4.06 0,-4.06 0,-3.56 -1.42,-3.56 ; -1.42,-2.79 0,-2.79 0,-2.29 -1.42,-2.29 ; -1.42,-1.52 0,-1.52 0,-1.02 -1.42,-1.02 ; -1.42,-0.25 0,-0.25 0,0.25 -1.42,0.25 ; -1.42,0.25 -1.42,-4.445 -5.82,-4.445 -5.82,0.635 -1.805,0.635 -1.42,0.25
  text "'.Designator'" at -2.78,-5.952 h1
Top Courtyard:
  lines w0.254: -6.35,-5 1.15,-5 1.15,1.1 -6.35,1.1 -6.35,-5
Top Designator:
  text ".Designator" at -10.218,-2.563 h1.52

## PinSocket_2x04_P1.27mm_Vertical [mm]
pads (8):
  rect 1x1 hole 0.7: 1(0,0)
  round 1 hole 0.7: 2(-1.27,0) 3(0,-1.27) 4(-1.27,-1.27) 5(0,-2.54) 6(-1.27,-2.54) 7(0,-3.81) 8(-1.27,-3.81)
F.SilkS:
  lines w0.254: -1.578,-4.505 -2.22,-4.505 -2.22,0.695 -1.578,0.695 ; -0.962,-4.505 -0.308,-4.505 ; -0.962,0.695 -0.76,0.695 ; 0,0.76 0.95,0.76 0.95,0 ; 0.308,-4.505 0.95,-4.505 0.95,-0.635 0.76,-0.635
Top Assembly:
  lines w0.254: -2.16,-4.445 0.89,-4.445 0.89,-0.128 0.128,0.635 -2.16,0.635 -2.16,-4.445
  text "'.Designator'" at 0.205,-5.952 h1
Top Courtyard:
  lines w0.254: -2.67,-4.95 1.38,-4.95 1.38,1.15 -2.67,1.15 -2.67,-4.95
Top Designator:
  text ".Designator" at -8.263,-2.563 h1.52

## PinSocket_2x04_P1.27mm_Vertical_SMD [mm]
pads (8):
  rect 2.1x0.75 smd: 1(1.8,1.905) 2(-1.8,1.905) 3(1.8,0.635) 4(-1.8,0.635) 5(1.8,-0.635) 6(-1.8,-0.635) 7(1.8,-1.905) 8(-1.8,-1.905)
F.SilkS:
  lines w0.254: -1.33,-2.54 -1.33,-2.6 1.33,-2.6 1.33,-2.54 ; -1.33,2.54 -1.33,2.6 1.33,2.6 1.33,2.54 2.79,2.54
Top Assembly:
  lines w0.254: -1.27,-2.105 -2.555,-2.105 -2.555,-1.705 -1.27,-1.705 ; -1.27,-0.835 -2.555,-0.835 -2.555,-0.435 -1.27,-0.435 ; -1.27,0.435 -2.555,0.435 -2.555,0.835 -1.27,0.835 ; -1.27,1.705 -2.555,1.705 -2.555,2.105 -1.27,2.105 ; 1.27,-2.105 2.555,-2.105 2.555,-1.705 1.27,-1.705 ; 1.27,-0.835 2.555,-0.835 2.555,-0.435 1.27,-0.435 ; 1.27,0.435 2.555,0.435 2.555,0.835 1.27,0.835 ; 1.27,1.705 2.555,1.705 2.555,2.105 1.27,2.105 ; -1.27,-2.54 1.27,-2.54 1.27,1.905 0.635,2.54 -1.27,2.54 -1.27,-2.54
  text "'.Designator'" at 0.84,-4.047 h1
Top Courtyard:
  lines w0.254: -3.35,-3.05 3.35,-3.05 3.35,3.05 -3.35,3.05 -3.35,-3.05
Top Designator:
  text ".Designator" at -7.618,-0.658 h1.52